# Altium footprint library KN2CLib.PcbLib: 142 footprints (part 5 of 9)
Each footprint in its own frame and in the unit in brackets; x right, y up, seen from the top. Pads: shape width x height; smd on the part's side, far side on the other; paste and mask are expansions set on the pad; w line width, h text height; cw(c..) or ccw(c..) is an arc to the next point about the centre after c.
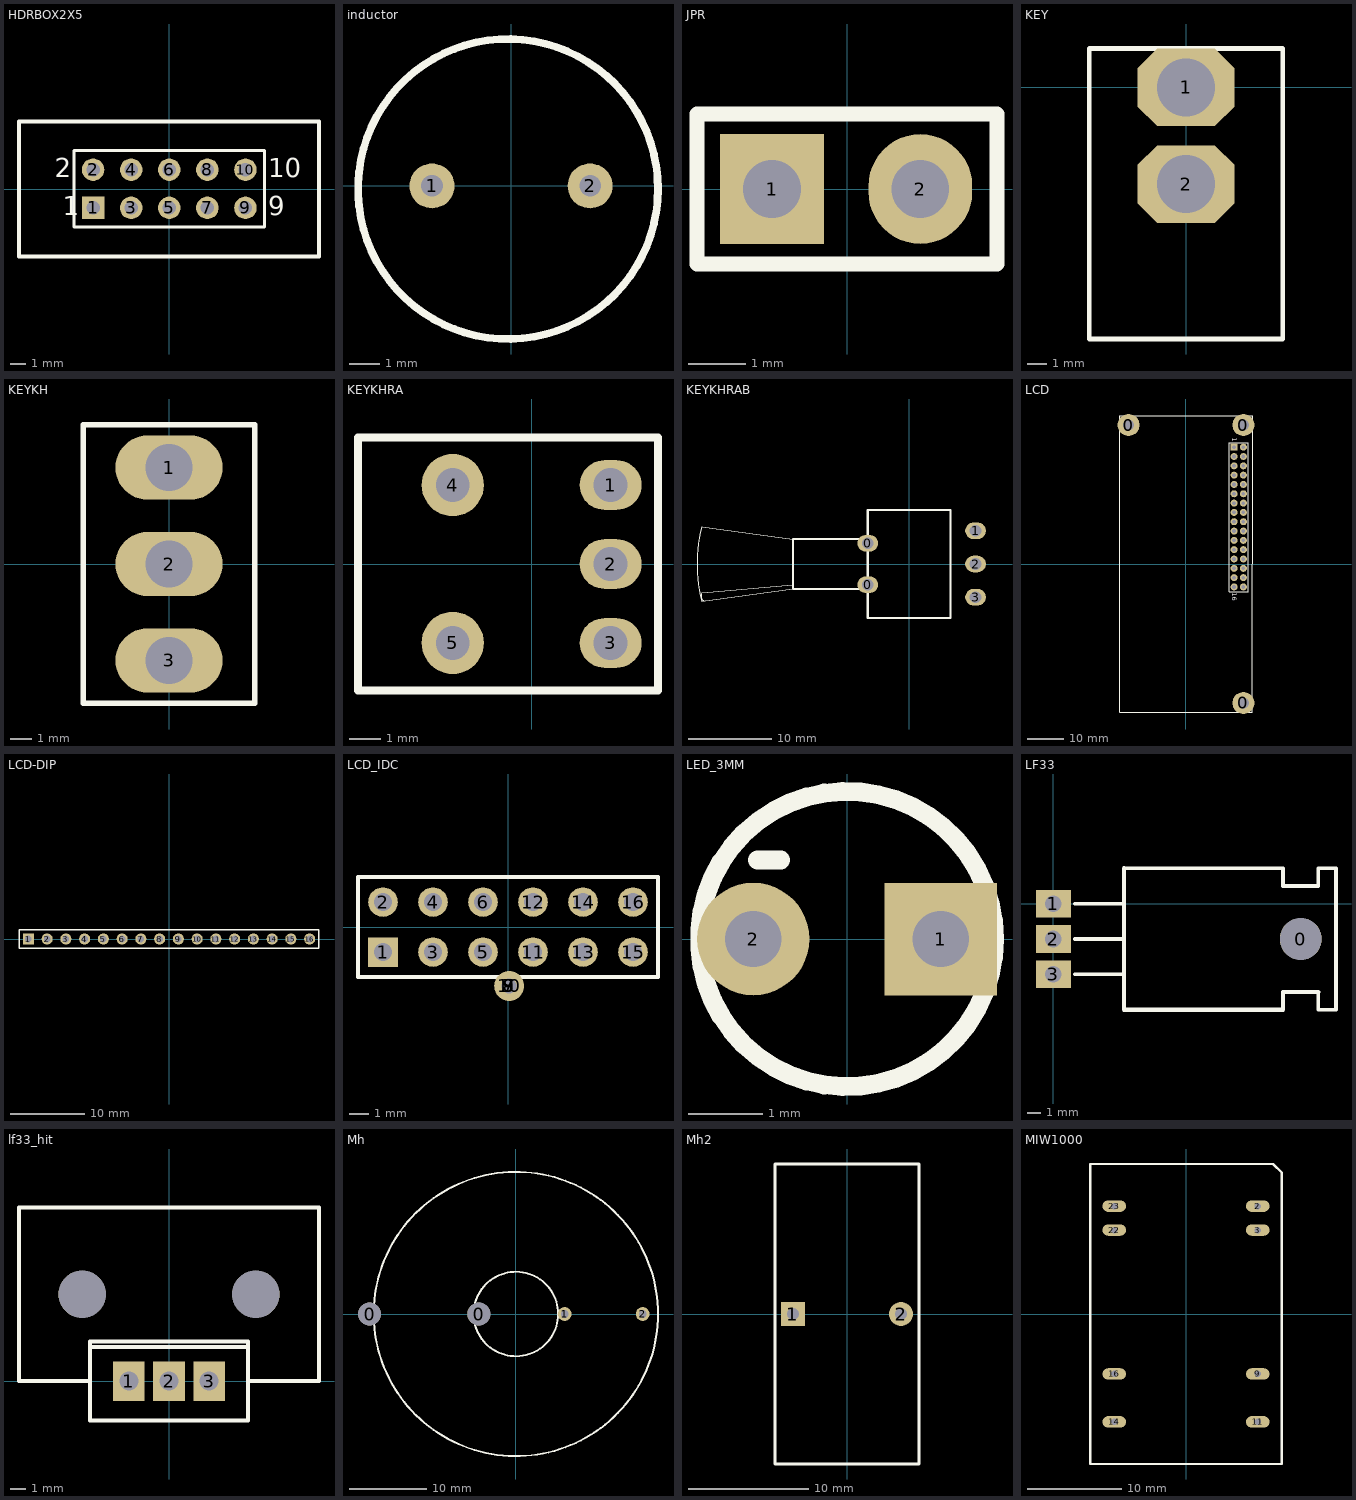
[diagram p4: the footprints below, top view; thin cyan lines are the x and y axes]

## HDRBOX2X5 [mm]
pads (10):
  rect 1.5x1.5 hole 0.9: 1(-5.062,-1.254)
  round 1.5 hole 0.9: 2(-5.062,1.286) 3(-2.522,-1.254) 4(-2.522,1.286) 5(0.018,-1.254) 6(0.018,1.286) 7(2.558,-1.254) 8(2.558,1.286) 9(5.098,-1.254) 10(5.098,1.286)
Top Overlay:
  lines w0.2: -6.332,-2.524 -6.332,2.556 6.368,2.556 6.368,-2.524 -6.332,-2.524
  lines w0.254: -10,-4.5 -10,4.5 10,4.5 10,-4.5 -10,-4.5
  text "2" at -7.602,0.778 h1.27
  text "1" at -7.094,-1.762 h1.27
  text "9" at 6.622,-1.762 h1.27
  text "10" at 6.622,0.778 h1.27
3D body: height 4, standoff 0, extent -10.025,-4.525 -9.975,4.45

## inductor [mm]
pads (2):
  round 1.5 hole 0.72: 1(-2.64,0) 2(2.64,0)
Top Overlay:
  circle w0.254: c-0.102,-0.102 r5.01

## JPR [mm] "Jumper"
pads (2):
  rect 1.8x1.9 hole 1: 1(-1.3,0)
  oval 1.8x1.9 hole 1: 2(1.27,0)
Top Overlay:
  lines w0.254: -2.6,-1.3 -2.6,1.3 2.6,1.3 2.6,-1.3 -2.6,-1.3
3D body: height 9.6, standoff 0, extent -2.575,-1.3 2.575,1.3

## KEY [mm]
pads (2):
  oct 5x4 hole 3: 1(0,0) 2(0,-5)
Top Overlay:
  lines w0.254: -5,-13 5,-13 5,2 -5,2 -5,-13
3D body: height 4, standoff 0, extent -5.075,-12.975 4.95,2.025

## KEYKH [mm]
pads (3):
  oval 5x3 hole 2.2: 1(0,4.5) 2(0,0) 3(0,-4.5)
Top Overlay:
  lines w0.254: -4,-6.5 -4,6.5 4,6.5 4,-6.5 -4,-6.5
3D body: height 4, standoff 0, extent -3.975,-6.45 3.95,6.5

## KEYKHRA [mm]
pads (5):
  oval 2x1.6 hole 1.09: 1(2.54,2.54) 2(2.54,0) 3(2.54,-2.54)
  round 2 hole 1.09: 4(-2.54,2.54) 5(-2.54,-2.54)
Top Overlay:
  lines w0.254: -5.588,-4.064 -5.588,4.064 4.064,4.064 4.064,-4.064 -5.588,-4.064
3D body: height 4, standoff 0, extent -5.6,-4.1 4.025,4.1

## KEYKHRAB [mm]
pads (5):
  oval 2.5x2 hole 1.4: 0(-5,-2.5) 0(-5,2.5) 1(8,4) 2(8,0) 3(8,-4)
Top Overlay:
  lines w0.1: -25.024,-4.506 cw(c-7.503,0) -25.024,4.506 ; -25.025,-4.503 -14,-3 ; -25.025,4.503 -14,3 ; -25.002,-3.492 ccw(c-24.391,-3.85) -24.757,-4.456 ; -25.002,-3.487 -14,-2.5
  lines w0.254: -5,-3 -14,-3 -14,3 -5,3 ; -5,-6.5 -5,6.5 5,6.5 5,-6.5 -5,-6.5
3D body: height 8, standoff 0, extent -25.6,-6.5 4.975,6.5

## LCD [mm]
pads (35):
  round 6 hole 3: 0(-15.655,37.887) 0(15.655,-37.887) 0(15.655,37.887)
  rect 1.9x1.9 hole 1: 1(13.105,31.843)
  round 1.9 hole 1: 1(15.645,31.843) 2(13.105,29.303) 2(15.645,29.303) 3(13.105,26.763) 3(15.645,26.763) 4(13.105,24.223) 4(15.645,24.223) 5(13.105,21.683) 5(15.645,21.683) 6(13.105,19.143) 6(15.645,19.143) 7(13.105,16.603) 7(15.645,16.603) 8(13.105,14.063) 8(15.645,14.063) 9(13.105,11.523) 9(15.645,11.523) 10(13.105,8.983) 10(15.645,8.983) 11(13.105,6.443) 11(15.645,6.443) 12(13.105,3.903) 12(15.645,3.903) 13(13.105,1.363) 13(15.645,1.363) 14(13.105,-1.177) 14(15.645,-1.177) 15(13.105,-3.717) 15(15.645,-3.717) 16(13.105,-6.257) 16(15.645,-6.257)
Top Overlay:
  lines w0.2: 11.835,-7.527 16.915,-7.527 16.915,33.113 11.835,33.113 11.835,-7.527
  lines w0.254: -18.055,-40.387 18.055,-40.387 18.145,40.387 -18.055,40.387 -18.055,-40.387
  text "1" at 12.597,34.383 h1.27
  text "16" at 12.597,-7.781 h1.27
3D body: height 15, standoff 8, extent -18,-40.483 18.125,40.425
3D body: height 10, standoff 0, extent 11.8,-7.525 16.9,33.1

## LCD-DIP [mm]
pads (16):
  rect 1.5x1.5 hole 0.9: 1(-19.05,0)
  round 1.5 hole 0.9: 2(-16.51,0) 3(-13.97,0) 4(-11.43,0) 5(-8.89,0) 6(-6.35,0) 7(-3.81,0) 8(-1.27,0) 9(1.27,0) 10(3.81,0) 11(6.35,0) 12(8.89,0) 13(11.43,0) 14(13.97,0) 15(16.51,0) 16(19.05,0)
Top Overlay:
  lines w0.2: -20.32,-1.27 20.32,-1.27 20.32,1.27 -18.415,1.27 -20.32,1.27 -20.32,-1.27

## LCD_IDC [mm]
pads (16):
  rect 1.5x1.5 hole 0.9: 1(-6.35,-1.27)
  round 1.5 hole 0.9: 2(-6.35,1.27) 3(-3.81,-1.27) 4(-3.81,1.27) 5(-1.27,-1.27) 6(-1.27,1.27) 11(1.27,-1.27) 12(1.27,1.27) 13(3.81,-1.27) 14(3.81,1.27) 15(6.35,-1.27) 16(6.35,1.27)
  round 1.524 hole 0.762: 7(0.061,-2.992) 8(0.061,-2.992) 9(0.061,-2.992) 10(0.061,-2.992)
Top Overlay:
  lines w0.2: -7.62,-2.54 7.62,-2.54 7.62,2.54 -7.62,2.54 -7.62,-2.54

## LED_3MM [mil]
pads (2):
  rect 60x60 hole 30: 1(50,0)
  round 60 hole 30: 2(-50,0)
Top Overlay:
  circle w10: c0,0 r78.74
  lines w10: -47.7,42.1 -35.3,42.1
3D body: height 118.11, standoff 0, extent -79.72,-77.76 79.72,75.79

## LF33 [mm]
pads (4):
  round 3 hole 3: 0(17.78,-2.54)
  rect 2.5x2 hole 1.2: 1(0,0) 2(0,-2.54) 3(0,-5.08)
Top Overlay:
  lines w0.254: 1.524,-5.08 5.08,-5.08 ; 1.524,-2.54 5.08,-2.54 ; 1.524,0 5.08,0 ; 5.08,2.54 16.51,2.54 16.51,1.27 19.05,1.27 19.05,2.54 20.32,2.54 20.32,-7.62 19.05,-7.62 19.05,-6.35
  lines w0.305: 5.08,2.54 5.08,-7.62 16.51,-7.62 16.51,-6.35 19.05,-6.35
3D body: height 4, standoff 0, extent 5.15,-7.625 20.325,2.525

## lf33_hit [mm]
pads (5):
  rect 2x2.5 hole 1.2: 1(-2.54,0) 2(0,0) 3(2.54,0)
  round 3 hole 3: ""(-5.5,5.5) ""(5.5,5.5)
Top Overlay:
  lines w0.254: -5,0 -9.5,0 -9.5,11 9.5,11 9.5,0 5,0 ; -5,2.159 5,2.159 ; -5,-2.5 5,-2.5 5,2.5 -5,2.5 -5,-2.5
3D body: height 4, standoff 0, extent -9.525,-2.45 9.525,11.025

## Mh [mm]
pads (4):
  round 3 hole 3: 0(-19.05,0) 0(-4.826,0)
  round 1.8 hole 1: 1(6.35,0) 2(16.51,0)
Top Overlay:
  circle w0.254: c0,0 r5.5
  circle w0.254: c0,0 r18.5
3D body: height 5, standoff 0, extent -18.5,-18.5 18.575,18.525

## Mh2 [mm]
pads (2):
  rect 2x2 hole 1: 1(-4.5,0)
  round 2 hole 1: 2(4.5,0)
Top Overlay:
  lines w0.254: -6,-12.5 6,-12.5 6,12.5 -6,12.5 -6,-12.5
3D body: height 4, standoff 0, extent -5.95,-12.45 5.925,12.525

## MIW1000 [mm]
pads (8):
  oval 2.5x1.2 hole 0.7: 2(7.61,11.43) 3(7.61,8.89) 9(7.61,-6.35) 11(7.61,-11.43) 14(-7.61,-11.43) 16(-7.61,-6.35) 22(-7.61,8.89) 23(-7.61,11.43)
Top Overlay:
  lines w0.254: -10.15,-15.9 -10.15,15.9 9.233,15.9 10.15,14.983 10.15,-15.9 -10.15,-15.9
3D body: height 4, standoff 0, extent -10.1,-15.975 10.1,15.8